# Altium schematic symbol library rect_1.Schlib: 1 symbol
Pins are listed as number, name and electrical type; pins without a type are passive.

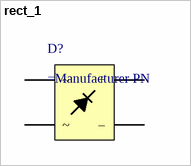
[diagram p0: symbol rect_1]

## rect_1
designator D?
Full Bridge Rectifier
pins: 1 +, 2 –, 3 ~, 4 ~